# Altium schematic symbol library SAMTEC-SLW-102-01-X-S.SchLib: 1 symbol
Pins are listed as number, name and electrical type; pins without a type are passive.

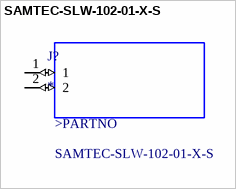
[diagram p0: symbol SAMTEC-SLW-102-01-X-S]

## SAMTEC-SLW-102-01-X-S
designator J?
MP: SAMTEC-SLW-102-01-X-S; Price: None; Availability: Unavailable; Package: None; Value: *
footprint SAMTEC-SLW-102-01-X-S
pins: 1 (io), 2 (io)
text: >PARTNO